# Altium footprint library TerminalBlock_Altech.PcbLib: 46 footprints (part 1 of 4)
Each footprint in its own frame and in the unit in brackets; x right, y up, seen from the top. Pads: shape width x height; smd on the part's side, far side on the other; paste and mask are expansions set on the pad; w line width, h text height; cw(c..) or ccw(c..) is an arc to the next point about the centre after c.
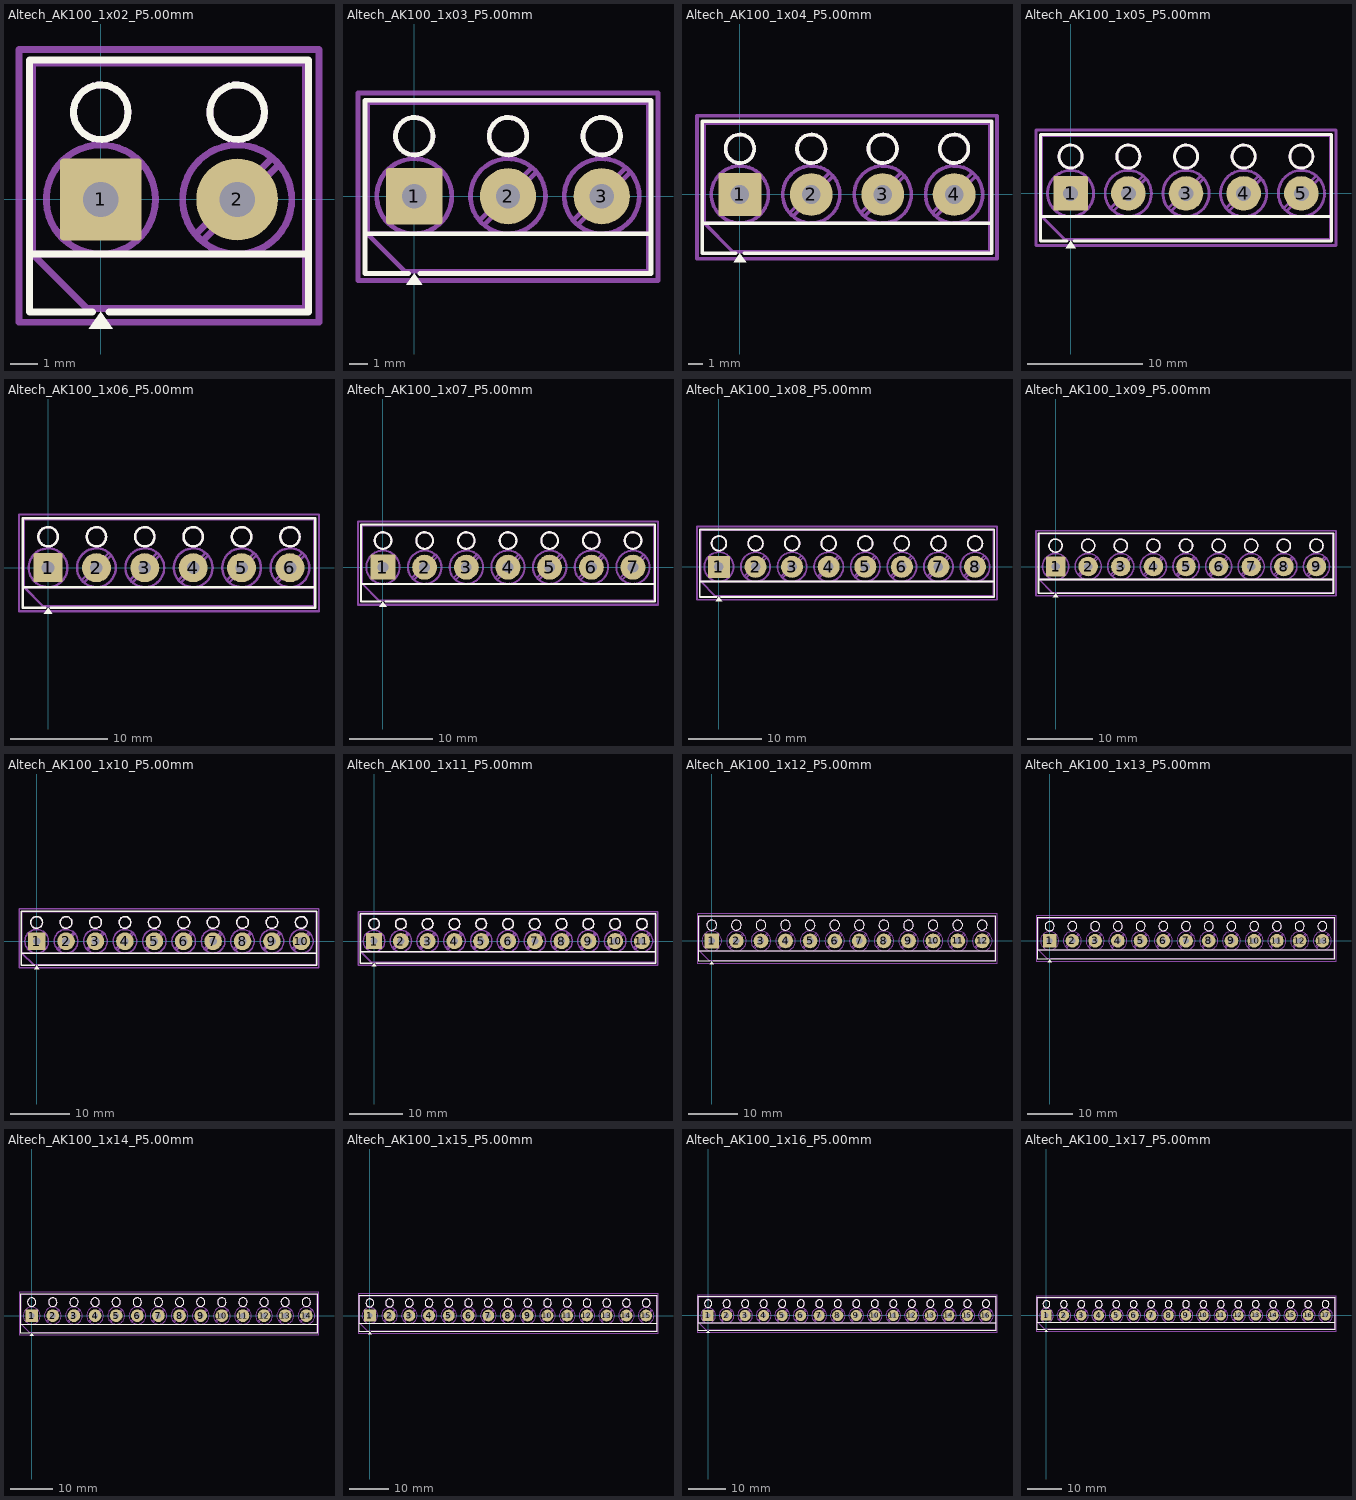
[diagram p0: the footprints below, top view; thin cyan lines are the x and y axes]

## Altech_AK100_1x02_P5.00mm [mm]
pads (2):
  rrect8% 3x3 hole 1.3: 1(0,0)
  round 3 hole 1.3: 2(5,0)
F.SilkS:
  circle w0.254: c5,3.2 r1
  circle w0.254: c0,3.2 r1
  region: 0.44,-4.73 -0.44,-4.73 0,-4.12
  lines w0.254: -2.62,-2 7.62,-2 ; -0.3,-4.12 -2.62,-4.12 -2.62,5.12 7.62,5.12 7.62,-4.12 0.3,-4.12
F.Fab:
  circle w0.254: c5,0 r2
  circle w0.254: c5,3.2 r1
  circle w0.254: c0,0 r2
  circle w0.254: c0,3.2 r1
  lines w0.254: -1.517,-1.273 1.273,1.517 ; -1.273,-1.517 1.517,1.273 ; 3.483,-1.273 6.273,1.517 ; 3.727,-1.517 6.517,1.273 ; 7.5,-2 -2.5,-2 ; -2.5,-2 -0.5,-4 7.5,-4 7.5,5 -2.5,5 -2.5,-2
  text "'.Designator'" at -1.547,-3.94 h1
F.CrtYd:
  lines w0.254: -3,-4.5 8,-4.5 8,5.5 -3,5.5 -3,-4.5

## Altech_AK100_1x03_P5.00mm [mm]
pads (3):
  rrect8% 3x3 hole 1.3: 1(0,0)
  round 3 hole 1.3: 2(5,0) 3(10,0)
F.SilkS:
  circle w0.254: c0,3.2 r1
  circle w0.254: c5,3.2 r1
  circle w0.254: c10,3.2 r1
  region: 0.44,-4.73 -0.44,-4.73 0,-4.12
  lines w0.254: -2.62,-2 12.62,-2 ; -0.3,-4.12 -2.62,-4.12 -2.62,5.12 12.62,5.12 12.62,-4.12 0.3,-4.12
F.Fab:
  circle w0.254: c0,3.2 r1
  circle w0.254: c0,0 r2
  circle w0.254: c5,3.2 r1
  circle w0.254: c5,0 r2
  circle w0.254: c10,3.2 r1
  circle w0.254: c10,0 r2
  lines w0.254: -1.517,-1.273 1.273,1.517 ; -1.273,-1.517 1.517,1.273 ; 3.483,-1.273 6.273,1.517 ; 3.727,-1.517 6.517,1.273 ; 8.483,-1.273 11.273,1.517 ; 8.727,-1.517 11.517,1.273 ; 12.5,-2 -2.5,-2 ; -2.5,-2 -2.5,5 12.5,5 12.5,-4 -0.5,-4 -2.5,-2
  text "'.Designator'" at 0.953,-3.94 h1
F.CrtYd:
  lines w0.254: -3,-4.5 -3,5.5 13,5.5 13,-4.5 -3,-4.5

## Altech_AK100_1x04_P5.00mm [mm]
pads (4):
  rrect8% 3x3 hole 1.3: 1(0,0)
  round 3 hole 1.3: 2(5,0) 3(10,0) 4(15,0)
F.SilkS:
  circle w0.254: c0,3.2 r1
  circle w0.254: c5,3.2 r1
  circle w0.254: c10,3.2 r1
  circle w0.254: c15,3.2 r1
  region: 0.44,-4.73 -0.44,-4.73 0,-4.12
  lines w0.254: -2.62,-2 17.62,-2 ; -0.3,-4.12 -2.62,-4.12 -2.62,5.12 17.62,5.12 17.62,-4.12 0.3,-4.12
F.Fab:
  circle w0.254: c0,3.2 r1
  circle w0.254: c0,0 r2
  circle w0.254: c5,3.2 r1
  circle w0.254: c5,0 r2
  circle w0.254: c10,3.2 r1
  circle w0.254: c10,0 r2
  circle w0.254: c15,3.2 r1
  circle w0.254: c15,0 r2
  lines w0.254: -1.517,-1.273 1.273,1.517 ; -1.273,-1.517 1.517,1.273 ; 3.483,-1.273 6.273,1.517 ; 3.727,-1.517 6.517,1.273 ; 8.483,-1.273 11.273,1.517 ; 8.727,-1.517 11.517,1.273 ; 13.483,-1.273 16.273,1.517 ; 13.727,-1.517 16.517,1.273 ; 17.5,-2 -2.5,-2 ; -2.5,-2 -2.5,5 17.5,5 17.5,-4 -0.5,-4 -2.5,-2
  text "'.Designator'" at 3.453,-3.94 h1
F.CrtYd:
  lines w0.254: -3,-4.5 -3,5.5 18,5.5 18,-4.5 -3,-4.5

## Altech_AK100_1x05_P5.00mm [mm]
pads (5):
  rrect8% 3x3 hole 1.3: 1(0,0)
  round 3 hole 1.3: 2(5,0) 3(10,0) 4(15,0) 5(20,0)
F.SilkS:
  circle w0.254: c0,3.2 r1
  circle w0.254: c5,3.2 r1
  circle w0.254: c10,3.2 r1
  circle w0.254: c15,3.2 r1
  circle w0.254: c20,3.2 r1
  region: 0.44,-4.73 -0.44,-4.73 0,-4.12
  lines w0.254: -2.62,-2 22.62,-2 ; -0.3,-4.12 -2.62,-4.12 -2.62,5.12 22.62,5.12 22.62,-4.12 0.3,-4.12
F.Fab:
  circle w0.254: c0,3.2 r1
  circle w0.254: c0,0 r2
  circle w0.254: c5,3.2 r1
  circle w0.254: c5,0 r2
  circle w0.254: c10,3.2 r1
  circle w0.254: c10,0 r2
  circle w0.254: c15,3.2 r1
  circle w0.254: c15,0 r2
  circle w0.254: c20,3.2 r1
  circle w0.254: c20,0 r2
  lines w0.254: -1.517,-1.273 1.273,1.517 ; -1.273,-1.517 1.517,1.273 ; 3.483,-1.273 6.273,1.517 ; 3.727,-1.517 6.517,1.273 ; 8.483,-1.273 11.273,1.517 ; 8.727,-1.517 11.517,1.273 ; 13.483,-1.273 16.273,1.517 ; 13.727,-1.517 16.517,1.273 ; 18.483,-1.273 21.273,1.517 ; 18.727,-1.517 21.517,1.273 ; 22.5,-2 -2.5,-2 ; -2.5,-2 -2.5,5 22.5,5 22.5,-4 -0.5,-4 -2.5,-2
  text "'.Designator'" at 5.953,-3.94 h1
F.CrtYd:
  lines w0.254: -3,-4.5 -3,5.5 23,5.5 23,-4.5 -3,-4.5

## Altech_AK100_1x06_P5.00mm [mm]
pads (6):
  rrect8% 3x3 hole 1.3: 1(0,0)
  round 3 hole 1.3: 2(5,0) 3(10,0) 4(15,0) 5(20,0) 6(25,0)
F.SilkS:
  circle w0.254: c0,3.2 r1
  circle w0.254: c5,3.2 r1
  circle w0.254: c10,3.2 r1
  circle w0.254: c15,3.2 r1
  circle w0.254: c20,3.2 r1
  circle w0.254: c25,3.2 r1
  region: 0.44,-4.73 -0.44,-4.73 0,-4.12
  lines w0.254: -2.62,-2 27.62,-2 ; -0.3,-4.12 -2.62,-4.12 -2.62,5.12 27.62,5.12 27.62,-4.12 0.3,-4.12
F.Fab:
  circle w0.254: c0,3.2 r1
  circle w0.254: c0,0 r2
  circle w0.254: c5,3.2 r1
  circle w0.254: c5,0 r2
  circle w0.254: c10,3.2 r1
  circle w0.254: c10,0 r2
  circle w0.254: c15,3.2 r1
  circle w0.254: c15,0 r2
  circle w0.254: c20,3.2 r1
  circle w0.254: c20,0 r2
  circle w0.254: c25,3.2 r1
  circle w0.254: c25,0 r2
  lines w0.254: -1.517,-1.273 1.273,1.517 ; -1.273,-1.517 1.517,1.273 ; 3.483,-1.273 6.273,1.517 ; 3.727,-1.517 6.517,1.273 ; 8.483,-1.273 11.273,1.517 ; 8.727,-1.517 11.517,1.273 ; 13.483,-1.273 16.273,1.517 ; 13.727,-1.517 16.517,1.273 ; 18.483,-1.273 21.273,1.517 ; 18.727,-1.517 21.517,1.273 ; 23.483,-1.273 26.273,1.517 ; 23.727,-1.517 26.517,1.273 ; 27.5,-2 -2.5,-2 ; -2.5,-2 -2.5,5 27.5,5 27.5,-4 -0.5,-4 -2.5,-2
  text "'.Designator'" at 8.453,-3.94 h1
F.CrtYd:
  lines w0.254: -3,-4.5 -3,5.5 28,5.5 28,-4.5 -3,-4.5

## Altech_AK100_1x07_P5.00mm [mm]
pads (7):
  rrect8% 3x3 hole 1.3: 1(0,0)
  round 3 hole 1.3: 2(5,0) 3(10,0) 4(15,0) 5(20,0) 6(25,0) 7(30,0)
F.SilkS:
  circle w0.254: c0,3.2 r1
  circle w0.254: c5,3.2 r1
  circle w0.254: c10,3.2 r1
  circle w0.254: c15,3.2 r1
  circle w0.254: c20,3.2 r1
  circle w0.254: c25,3.2 r1
  circle w0.254: c30,3.2 r1
  region: 0.44,-4.73 -0.44,-4.73 0,-4.12
  lines w0.254: -2.62,-2 32.62,-2 ; -0.3,-4.12 -2.62,-4.12 -2.62,5.12 32.62,5.12 32.62,-4.12 0.3,-4.12
F.Fab:
  circle w0.254: c0,3.2 r1
  circle w0.254: c0,0 r2
  circle w0.254: c5,3.2 r1
  circle w0.254: c5,0 r2
  circle w0.254: c10,3.2 r1
  circle w0.254: c10,0 r2
  circle w0.254: c15,3.2 r1
  circle w0.254: c15,0 r2
  circle w0.254: c20,3.2 r1
  circle w0.254: c20,0 r2
  circle w0.254: c25,3.2 r1
  circle w0.254: c25,0 r2
  circle w0.254: c30,3.2 r1
  circle w0.254: c30,0 r2
  lines w0.254: -1.517,-1.273 1.273,1.517 ; -1.273,-1.517 1.517,1.273 ; 3.483,-1.273 6.273,1.517 ; 3.727,-1.517 6.517,1.273 ; 8.483,-1.273 11.273,1.517 ; 8.727,-1.517 11.517,1.273 ; 13.483,-1.273 16.273,1.517 ; 13.727,-1.517 16.517,1.273 ; 18.483,-1.273 21.273,1.517 ; 18.727,-1.517 21.517,1.273 ; 23.483,-1.273 26.273,1.517 ; 23.727,-1.517 26.517,1.273 ; 28.483,-1.273 31.273,1.517 ; 28.727,-1.517 31.517,1.273 ; 32.5,-2 -2.5,-2 ; -2.5,-2 -2.5,5 32.5,5 32.5,-4 -0.5,-4 -2.5,-2
  text "'.Designator'" at 10.953,-3.94 h1
F.CrtYd:
  lines w0.254: -3,-4.5 -3,5.5 33,5.5 33,-4.5 -3,-4.5

## Altech_AK100_1x08_P5.00mm [mm]
pads (8):
  rrect8% 3x3 hole 1.3: 1(0,0)
  round 3 hole 1.3: 2(5,0) 3(10,0) 4(15,0) 5(20,0) 6(25,0) 7(30,0) 8(35,0)
F.SilkS:
  circle w0.254: c0,3.2 r1
  circle w0.254: c5,3.2 r1
  circle w0.254: c10,3.2 r1
  circle w0.254: c15,3.2 r1
  circle w0.254: c20,3.2 r1
  circle w0.254: c25,3.2 r1
  circle w0.254: c30,3.2 r1
  circle w0.254: c35,3.2 r1
  region: 0.44,-4.73 -0.44,-4.73 0,-4.12
  lines w0.254: -2.62,-2 37.62,-2 ; -0.3,-4.12 -2.62,-4.12 -2.62,5.12 37.62,5.12 37.62,-4.12 0.3,-4.12
F.Fab:
  circle w0.254: c0,3.2 r1
  circle w0.254: c0,0 r2
  circle w0.254: c5,3.2 r1
  circle w0.254: c5,0 r2
  circle w0.254: c10,3.2 r1
  circle w0.254: c10,0 r2
  circle w0.254: c15,3.2 r1
  circle w0.254: c15,0 r2
  circle w0.254: c20,3.2 r1
  circle w0.254: c20,0 r2
  circle w0.254: c25,3.2 r1
  circle w0.254: c25,0 r2
  circle w0.254: c30,3.2 r1
  circle w0.254: c30,0 r2
  circle w0.254: c35,3.2 r1
  circle w0.254: c35,0 r2
  lines w0.254: -1.517,-1.273 1.273,1.517 ; -1.273,-1.517 1.517,1.273 ; 3.483,-1.273 6.273,1.517 ; 3.727,-1.517 6.517,1.273 ; 8.483,-1.273 11.273,1.517 ; 8.727,-1.517 11.517,1.273 ; 13.483,-1.273 16.273,1.517 ; 13.727,-1.517 16.517,1.273 ; 18.483,-1.273 21.273,1.517 ; 18.727,-1.517 21.517,1.273 ; 23.483,-1.273 26.273,1.517 ; 23.727,-1.517 26.517,1.273 ; 28.483,-1.273 31.273,1.517 ; 28.727,-1.517 31.517,1.273 ; 33.483,-1.273 36.273,1.517 ; 33.727,-1.517 36.517,1.273 ; 37.5,-2 -2.5,-2 ; -2.5,-2 -2.5,5 37.5,5 37.5,-4 -0.5,-4 -2.5,-2
  text "'.Designator'" at 13.453,-3.94 h1
F.CrtYd:
  lines w0.254: -3,-4.5 -3,5.5 38,5.5 38,-4.5 -3,-4.5

## Altech_AK100_1x09_P5.00mm [mm]
pads (9):
  rrect8% 3x3 hole 1.3: 1(0,0)
  round 3 hole 1.3: 2(5,0) 3(10,0) 4(15,0) 5(20,0) 6(25,0) 7(30,0) 8(35,0) 9(40,0)
F.SilkS:
  circle w0.254: c0,3.2 r1
  circle w0.254: c5,3.2 r1
  circle w0.254: c10,3.2 r1
  circle w0.254: c15,3.2 r1
  circle w0.254: c20,3.2 r1
  circle w0.254: c25,3.2 r1
  circle w0.254: c30,3.2 r1
  circle w0.254: c35,3.2 r1
  circle w0.254: c40,3.2 r1
  region: 0.44,-4.73 -0.44,-4.73 0,-4.12
  lines w0.254: -2.62,-2 42.62,-2 ; -0.3,-4.12 -2.62,-4.12 -2.62,5.12 42.62,5.12 42.62,-4.12 0.3,-4.12
F.Fab:
  circle w0.254: c0,3.2 r1
  circle w0.254: c0,0 r2
  circle w0.254: c5,3.2 r1
  circle w0.254: c5,0 r2
  circle w0.254: c10,3.2 r1
  circle w0.254: c10,0 r2
  circle w0.254: c15,3.2 r1
  circle w0.254: c15,0 r2
  circle w0.254: c20,3.2 r1
  circle w0.254: c20,0 r2
  circle w0.254: c25,3.2 r1
  circle w0.254: c25,0 r2
  circle w0.254: c30,3.2 r1
  circle w0.254: c30,0 r2
  circle w0.254: c35,3.2 r1
  circle w0.254: c35,0 r2
  circle w0.254: c40,3.2 r1
  circle w0.254: c40,0 r2
  lines w0.254: -1.517,-1.273 1.273,1.517 ; -1.273,-1.517 1.517,1.273 ; 3.483,-1.273 6.273,1.517 ; 3.727,-1.517 6.517,1.273 ; 8.483,-1.273 11.273,1.517 ; 8.727,-1.517 11.517,1.273 ; 13.483,-1.273 16.273,1.517 ; 13.727,-1.517 16.517,1.273 ; 18.483,-1.273 21.273,1.517 ; 18.727,-1.517 21.517,1.273 ; 23.483,-1.273 26.273,1.517 ; 23.727,-1.517 26.517,1.273 ; 28.483,-1.273 31.273,1.517 ; 28.727,-1.517 31.517,1.273 ; 33.483,-1.273 36.273,1.517 ; 33.727,-1.517 36.517,1.273 ; 38.483,-1.273 41.273,1.517 ; 38.727,-1.517 41.517,1.273 ; 42.5,-2 -2.5,-2 ; -2.5,-2 -2.5,5 42.5,5 42.5,-4 -0.5,-4 -2.5,-2
  text "'.Designator'" at 15.953,-3.94 h1
F.CrtYd:
  lines w0.254: -3,-4.5 -3,5.5 43,5.5 43,-4.5 -3,-4.5

## Altech_AK100_1x10_P5.00mm [mm]
pads (10):
  rrect8% 3x3 hole 1.3: 1(0,0)
  round 3 hole 1.3: 2(5,0) 3(10,0) 4(15,0) 5(20,0) 6(25,0) 7(30,0) 8(35,0) 9(40,0) 10(45,0)
F.SilkS:
  circle w0.254: c0,3.2 r1
  circle w0.254: c5,3.2 r1
  circle w0.254: c10,3.2 r1
  circle w0.254: c15,3.2 r1
  circle w0.254: c20,3.2 r1
  circle w0.254: c25,3.2 r1
  circle w0.254: c30,3.2 r1
  circle w0.254: c35,3.2 r1
  circle w0.254: c40,3.2 r1
  circle w0.254: c45,3.2 r1
  region: 0.44,-4.73 -0.44,-4.73 0,-4.12
  lines w0.254: -2.62,-2 47.62,-2 ; -0.3,-4.12 -2.62,-4.12 -2.62,5.12 47.62,5.12 47.62,-4.12 0.3,-4.12
F.Fab:
  circle w0.254: c0,3.2 r1
  circle w0.254: c0,0 r2
  circle w0.254: c5,3.2 r1
  circle w0.254: c5,0 r2
  circle w0.254: c10,3.2 r1
  circle w0.254: c10,0 r2
  circle w0.254: c15,3.2 r1
  circle w0.254: c15,0 r2
  circle w0.254: c20,3.2 r1
  circle w0.254: c20,0 r2
  circle w0.254: c25,3.2 r1
  circle w0.254: c25,0 r2
  circle w0.254: c30,3.2 r1
  circle w0.254: c30,0 r2
  circle w0.254: c35,3.2 r1
  circle w0.254: c35,0 r2
  circle w0.254: c40,3.2 r1
  circle w0.254: c40,0 r2
  circle w0.254: c45,3.2 r1
  circle w0.254: c45,0 r2
  lines w0.254: -1.517,-1.273 1.273,1.517 ; -1.273,-1.517 1.517,1.273 ; 3.483,-1.273 6.273,1.517 ; 3.727,-1.517 6.517,1.273 ; 8.483,-1.273 11.273,1.517 ; 8.727,-1.517 11.517,1.273 ; 13.483,-1.273 16.273,1.517 ; 13.727,-1.517 16.517,1.273 ; 18.483,-1.273 21.273,1.517 ; 18.727,-1.517 21.517,1.273 ; 23.483,-1.273 26.273,1.517 ; 23.727,-1.517 26.517,1.273 ; 28.483,-1.273 31.273,1.517 ; 28.727,-1.517 31.517,1.273 ; 33.483,-1.273 36.273,1.517 ; 33.727,-1.517 36.517,1.273 ; 38.483,-1.273 41.273,1.517 ; 38.727,-1.517 41.517,1.273 ; 43.483,-1.273 46.273,1.517 ; 43.727,-1.517 46.517,1.273 ; 47.5,-2 -2.5,-2 ; -2.5,-2 -2.5,5 47.5,5 47.5,-4 -0.5,-4 -2.5,-2
  text "'.Designator'" at 18.453,-3.94 h1
F.CrtYd:
  lines w0.254: -3,-4.5 -3,5.5 48,5.5 48,-4.5 -3,-4.5

## Altech_AK100_1x11_P5.00mm [mm]
pads (11):
  rrect8% 3x3 hole 1.3: 1(0,0)
  round 3 hole 1.3: 2(5,0) 3(10,0) 4(15,0) 5(20,0) 6(25,0) 7(30,0) 8(35,0) 9(40,0) 10(45,0) 11(50,0)
F.SilkS:
  circle w0.254: c0,3.2 r1
  circle w0.254: c5,3.2 r1
  circle w0.254: c10,3.2 r1
  circle w0.254: c15,3.2 r1
  circle w0.254: c20,3.2 r1
  circle w0.254: c25,3.2 r1
  circle w0.254: c30,3.2 r1
  circle w0.254: c35,3.2 r1
  circle w0.254: c40,3.2 r1
  circle w0.254: c45,3.2 r1
  circle w0.254: c50,3.2 r1
  region: 0.44,-4.73 -0.44,-4.73 0,-4.12
  lines w0.254: -2.62,-2 52.62,-2 ; -0.3,-4.12 -2.62,-4.12 -2.62,5.12 52.62,5.12 52.62,-4.12 0.3,-4.12
F.Fab:
  circle w0.254: c0,3.2 r1
  circle w0.254: c0,0 r2
  circle w0.254: c5,3.2 r1
  circle w0.254: c5,0 r2
  circle w0.254: c10,3.2 r1
  circle w0.254: c10,0 r2
  circle w0.254: c15,3.2 r1
  circle w0.254: c15,0 r2
  circle w0.254: c20,3.2 r1
  circle w0.254: c20,0 r2
  circle w0.254: c25,3.2 r1
  circle w0.254: c25,0 r2
  circle w0.254: c30,3.2 r1
  circle w0.254: c30,0 r2
  circle w0.254: c35,3.2 r1
  circle w0.254: c35,0 r2
  circle w0.254: c40,3.2 r1
  circle w0.254: c40,0 r2
  circle w0.254: c45,3.2 r1
  circle w0.254: c45,0 r2
  circle w0.254: c50,3.2 r1
  circle w0.254: c50,0 r2
  lines w0.254: -1.517,-1.273 1.273,1.517 ; -1.273,-1.517 1.517,1.273 ; 3.483,-1.273 6.273,1.517 ; 3.727,-1.517 6.517,1.273 ; 8.483,-1.273 11.273,1.517 ; 8.727,-1.517 11.517,1.273 ; 13.483,-1.273 16.273,1.517 ; 13.727,-1.517 16.517,1.273 ; 18.483,-1.273 21.273,1.517 ; 18.727,-1.517 21.517,1.273 ; 23.483,-1.273 26.273,1.517 ; 23.727,-1.517 26.517,1.273 ; 28.483,-1.273 31.273,1.517 ; 28.727,-1.517 31.517,1.273 ; 33.483,-1.273 36.273,1.517 ; 33.727,-1.517 36.517,1.273 ; 38.483,-1.273 41.273,1.517 ; 38.727,-1.517 41.517,1.273 ; 43.483,-1.273 46.273,1.517 ; 43.727,-1.517 46.517,1.273 ; 48.483,-1.273 51.273,1.517 ; 48.727,-1.517 51.517,1.273 ; 52.5,-2 -2.5,-2 ; -2.5,-2 -2.5,5 52.5,5 52.5,-4 -0.5,-4 -2.5,-2
  text "'.Designator'" at 20.953,-3.94 h1
F.CrtYd:
  lines w0.254: -3,-4.5 -3,5.5 53,5.5 53,-4.5 -3,-4.5

## Altech_AK100_1x12_P5.00mm [mm]
pads (12):
  rrect8% 3x3 hole 1.3: 1(0,0)
  round 3 hole 1.3: 2(5,0) 3(10,0) 4(15,0) 5(20,0) 6(25,0) 7(30,0) 8(35,0) 9(40,0) 10(45,0) 11(50,0) 12(55,0)
F.SilkS:
  circle w0.254: c0,3.2 r1
  circle w0.254: c5,3.2 r1
  circle w0.254: c10,3.2 r1
  circle w0.254: c15,3.2 r1
  circle w0.254: c20,3.2 r1
  circle w0.254: c25,3.2 r1
  circle w0.254: c30,3.2 r1
  circle w0.254: c35,3.2 r1
  circle w0.254: c40,3.2 r1
  circle w0.254: c45,3.2 r1
  circle w0.254: c50,3.2 r1
  circle w0.254: c55,3.2 r1
  region: 0.44,-4.73 -0.44,-4.73 0,-4.12
  lines w0.254: -2.62,-2 57.62,-2 ; -0.3,-4.12 -2.62,-4.12 -2.62,5.12 57.62,5.12 57.62,-4.12 0.3,-4.12
F.Fab:
  circle w0.254: c0,3.2 r1
  circle w0.254: c0,0 r2
  circle w0.254: c5,3.2 r1
  circle w0.254: c5,0 r2
  circle w0.254: c10,3.2 r1
  circle w0.254: c10,0 r2
  circle w0.254: c15,3.2 r1
  circle w0.254: c15,0 r2
  circle w0.254: c20,3.2 r1
  circle w0.254: c20,0 r2
  circle w0.254: c25,3.2 r1
  circle w0.254: c25,0 r2
  circle w0.254: c30,3.2 r1
  circle w0.254: c30,0 r2
  circle w0.254: c35,3.2 r1
  circle w0.254: c35,0 r2
  circle w0.254: c40,3.2 r1
  circle w0.254: c40,0 r2
  circle w0.254: c45,3.2 r1
  circle w0.254: c45,0 r2
  circle w0.254: c50,3.2 r1
  circle w0.254: c50,0 r2
  circle w0.254: c55,3.2 r1
  circle w0.254: c55,0 r2
  lines w0.254: -1.517,-1.273 1.273,1.517 ; -1.273,-1.517 1.517,1.273 ; 3.483,-1.273 6.273,1.517 ; 3.727,-1.517 6.517,1.273 ; 8.483,-1.273 11.273,1.517 ; 8.727,-1.517 11.517,1.273 ; 13.483,-1.273 16.273,1.517 ; 13.727,-1.517 16.517,1.273 ; 18.483,-1.273 21.273,1.517 ; 18.727,-1.517 21.517,1.273 ; 23.483,-1.273 26.273,1.517 ; 23.727,-1.517 26.517,1.273 ; 28.483,-1.273 31.273,1.517 ; 28.727,-1.517 31.517,1.273 ; 33.483,-1.273 36.273,1.517 ; 33.727,-1.517 36.517,1.273 ; 38.483,-1.273 41.273,1.517 ; 38.727,-1.517 41.517,1.273 ; 43.483,-1.273 46.273,1.517 ; 43.727,-1.517 46.517,1.273 ; 48.483,-1.273 51.273,1.517 ; 48.727,-1.517 51.517,1.273 ; 53.483,-1.273 56.273,1.517 ; 53.727,-1.517 56.517,1.273 ; 57.5,-2 -2.5,-2 ; -2.5,-2 -2.5,5 57.5,5 57.5,-4 -0.5,-4 -2.5,-2
  text "'.Designator'" at 23.453,-3.94 h1
F.CrtYd:
  lines w0.254: -3,-4.5 -3,5.5 58,5.5 58,-4.5 -3,-4.5

## Altech_AK100_1x13_P5.00mm [mm]
pads (13):
  rrect8% 3x3 hole 1.3: 1(0,0)
  round 3 hole 1.3: 2(5,0) 3(10,0) 4(15,0) 5(20,0) 6(25,0) 7(30,0) 8(35,0) 9(40,0) 10(45,0) 11(50,0) 12(55,0) 13(60,0)
F.SilkS:
  circle w0.254: c0,3.2 r1
  circle w0.254: c5,3.2 r1
  circle w0.254: c10,3.2 r1
  circle w0.254: c15,3.2 r1
  circle w0.254: c20,3.2 r1
  circle w0.254: c25,3.2 r1
  circle w0.254: c30,3.2 r1
  circle w0.254: c35,3.2 r1
  circle w0.254: c40,3.2 r1
  circle w0.254: c45,3.2 r1
  circle w0.254: c50,3.2 r1
  circle w0.254: c55,3.2 r1
  circle w0.254: c60,3.2 r1
  region: 0.44,-4.73 -0.44,-4.73 0,-4.12
  lines w0.254: -2.62,-2 62.62,-2 ; -0.3,-4.12 -2.62,-4.12 -2.62,5.12 62.62,5.12 62.62,-4.12 0.3,-4.12
F.Fab:
  circle w0.254: c0,3.2 r1
  circle w0.254: c0,0 r2
  circle w0.254: c5,3.2 r1
  circle w0.254: c5,0 r2
  circle w0.254: c10,3.2 r1
  circle w0.254: c10,0 r2
  circle w0.254: c15,3.2 r1
  circle w0.254: c15,0 r2
  circle w0.254: c20,3.2 r1
  circle w0.254: c20,0 r2
  circle w0.254: c25,3.2 r1
  circle w0.254: c25,0 r2
  circle w0.254: c30,3.2 r1
  circle w0.254: c30,0 r2
  circle w0.254: c35,3.2 r1
  circle w0.254: c35,0 r2
  circle w0.254: c40,3.2 r1
  circle w0.254: c40,0 r2
  circle w0.254: c45,3.2 r1
  circle w0.254: c45,0 r2
  circle w0.254: c50,3.2 r1
  circle w0.254: c50,0 r2
  circle w0.254: c55,3.2 r1
  circle w0.254: c55,0 r2
  circle w0.254: c60,3.2 r1
  circle w0.254: c60,0 r2
  lines w0.254: -1.517,-1.273 1.273,1.517 ; -1.273,-1.517 1.517,1.273 ; 3.483,-1.273 6.273,1.517 ; 3.727,-1.517 6.517,1.273 ; 8.483,-1.273 11.273,1.517 ; 8.727,-1.517 11.517,1.273 ; 13.483,-1.273 16.273,1.517 ; 13.727,-1.517 16.517,1.273 ; 18.483,-1.273 21.273,1.517 ; 18.727,-1.517 21.517,1.273 ; 23.483,-1.273 26.273,1.517 ; 23.727,-1.517 26.517,1.273 ; 28.483,-1.273 31.273,1.517 ; 28.727,-1.517 31.517,1.273 ; 33.483,-1.273 36.273,1.517 ; 33.727,-1.517 36.517,1.273 ; 38.483,-1.273 41.273,1.517 ; 38.727,-1.517 41.517,1.273 ; 43.483,-1.273 46.273,1.517 ; 43.727,-1.517 46.517,1.273 ; 48.483,-1.273 51.273,1.517 ; 48.727,-1.517 51.517,1.273 ; 53.483,-1.273 56.273,1.517 ; 53.727,-1.517 56.517,1.273 ; 58.483,-1.273 61.273,1.517 ; 58.727,-1.517 61.517,1.273 ; 62.5,-2 -2.5,-2 ; -2.5,-2 -2.5,5 62.5,5 62.5,-4 -0.5,-4 -2.5,-2
  text "'.Designator'" at 25.953,-3.94 h1
F.CrtYd:
  lines w0.254: -3,-4.5 -3,5.5 63,5.5 63,-4.5 -3,-4.5

## Altech_AK100_1x14_P5.00mm [mm]
pads (14):
  rrect8% 3x3 hole 1.3: 1(0,0)
  round 3 hole 1.3: 2(5,0) 3(10,0) 4(15,0) 5(20,0) 6(25,0) 7(30,0) 8(35,0) 9(40,0) 10(45,0) 11(50,0) 12(55,0) 13(60,0) 14(65,0)
F.SilkS:
  circle w0.254: c0,3.2 r1
  circle w0.254: c5,3.2 r1
  circle w0.254: c10,3.2 r1
  circle w0.254: c15,3.2 r1
  circle w0.254: c20,3.2 r1
  circle w0.254: c25,3.2 r1
  circle w0.254: c30,3.2 r1
  circle w0.254: c35,3.2 r1
  circle w0.254: c40,3.2 r1
  circle w0.254: c45,3.2 r1
  circle w0.254: c50,3.2 r1
  circle w0.254: c55,3.2 r1
  circle w0.254: c60,3.2 r1
  circle w0.254: c65,3.2 r1
  region: 0.44,-4.73 -0.44,-4.73 0,-4.12
  lines w0.254: -2.62,-2 67.62,-2 ; -0.3,-4.12 -2.62,-4.12 -2.62,5.12 67.62,5.12 67.62,-4.12 0.3,-4.12
F.Fab:
  circle w0.254: c0,3.2 r1
  circle w0.254: c0,0 r2
  circle w0.254: c5,3.2 r1
  circle w0.254: c5,0 r2
  circle w0.254: c10,3.2 r1
  circle w0.254: c10,0 r2
  circle w0.254: c15,3.2 r1
  circle w0.254: c15,0 r2
  circle w0.254: c20,3.2 r1
  circle w0.254: c20,0 r2
  circle w0.254: c25,3.2 r1
  circle w0.254: c25,0 r2
  circle w0.254: c30,3.2 r1
  circle w0.254: c30,0 r2
  circle w0.254: c35,3.2 r1
  circle w0.254: c35,0 r2
  circle w0.254: c40,3.2 r1
  circle w0.254: c40,0 r2
  circle w0.254: c45,3.2 r1
  circle w0.254: c45,0 r2
  circle w0.254: c50,3.2 r1
  circle w0.254: c50,0 r2
  circle w0.254: c55,3.2 r1
  circle w0.254: c55,0 r2
  circle w0.254: c60,3.2 r1
  circle w0.254: c60,0 r2
  circle w0.254: c65,3.2 r1
  circle w0.254: c65,0 r2
  lines w0.254: -1.517,-1.273 1.273,1.517 ; -1.273,-1.517 1.517,1.273 ; 3.483,-1.273 6.273,1.517 ; 3.727,-1.517 6.517,1.273 ; 8.483,-1.273 11.273,1.517 ; 8.727,-1.517 11.517,1.273 ; 13.483,-1.273 16.273,1.517 ; 13.727,-1.517 16.517,1.273 ; 18.483,-1.273 21.273,1.517 ; 18.727,-1.517 21.517,1.273 ; 23.483,-1.273 26.273,1.517 ; 23.727,-1.517 26.517,1.273 ; 28.483,-1.273 31.273,1.517 ; 28.727,-1.517 31.517,1.273 ; 33.483,-1.273 36.273,1.517 ; 33.727,-1.517 36.517,1.273 ; 38.483,-1.273 41.273,1.517 ; 38.727,-1.517 41.517,1.273 ; 43.483,-1.273 46.273,1.517 ; 43.727,-1.517 46.517,1.273 ; 48.483,-1.273 51.273,1.517 ; 48.727,-1.517 51.517,1.273 ; 53.483,-1.273 56.273,1.517 ; 53.727,-1.517 56.517,1.273 ; 58.483,-1.273 61.273,1.517 ; 58.727,-1.517 61.517,1.273 ; 63.483,-1.273 66.273,1.517 ; 63.727,-1.517 66.517,1.273 ; 67.5,-2 -2.5,-2 ; -2.5,-2 -2.5,5 67.5,5 67.5,-4 -0.5,-4 -2.5,-2
  text "'.Designator'" at 28.453,-3.94 h1
F.CrtYd:
  lines w0.254: -3,-4.5 -3,5.5 68,5.5 68,-4.5 -3,-4.5

## Altech_AK100_1x15_P5.00mm [mm]
pads (15):
  rrect8% 3x3 hole 1.3: 1(0,0)
  round 3 hole 1.3: 2(5,0) 3(10,0) 4(15,0) 5(20,0) 6(25,0) 7(30,0) 8(35,0) 9(40,0) 10(45,0) 11(50,0) 12(55,0) 13(60,0) 14(65,0) 15(70,0)
F.SilkS:
  circle w0.254: c0,3.2 r1
  circle w0.254: c5,3.2 r1
  circle w0.254: c10,3.2 r1
  circle w0.254: c15,3.2 r1
  circle w0.254: c20,3.2 r1
  circle w0.254: c25,3.2 r1
  circle w0.254: c30,3.2 r1
  circle w0.254: c35,3.2 r1
  circle w0.254: c40,3.2 r1
  circle w0.254: c45,3.2 r1
  circle w0.254: c50,3.2 r1
  circle w0.254: c55,3.2 r1
  circle w0.254: c60,3.2 r1
  circle w0.254: c65,3.2 r1
  circle w0.254: c70,3.2 r1
  region: 0.44,-4.73 -0.44,-4.73 0,-4.12
  lines w0.254: -2.62,-2 72.62,-2 ; -0.3,-4.12 -2.62,-4.12 -2.62,5.12 72.62,5.12 72.62,-4.12 0.3,-4.12
F.Fab:
  circle w0.254: c0,3.2 r1
  circle w0.254: c0,0 r2
  circle w0.254: c5,3.2 r1
  circle w0.254: c5,0 r2
  circle w0.254: c10,3.2 r1
  circle w0.254: c10,0 r2
  circle w0.254: c15,3.2 r1
  circle w0.254: c15,0 r2
  circle w0.254: c20,3.2 r1
  circle w0.254: c20,0 r2
  circle w0.254: c25,3.2 r1
  circle w0.254: c25,0 r2
  circle w0.254: c30,3.2 r1
  circle w0.254: c30,0 r2
  circle w0.254: c35,3.2 r1
  circle w0.254: c35,0 r2
  circle w0.254: c40,3.2 r1
  circle w0.254: c40,0 r2
  circle w0.254: c45,3.2 r1
  circle w0.254: c45,0 r2
  circle w0.254: c50,3.2 r1
  circle w0.254: c50,0 r2
  circle w0.254: c55,3.2 r1
  circle w0.254: c55,0 r2
  circle w0.254: c60,3.2 r1
  circle w0.254: c60,0 r2
  circle w0.254: c65,3.2 r1
  circle w0.254: c65,0 r2
  circle w0.254: c70,3.2 r1
  circle w0.254: c70,0 r2
  lines w0.254: -1.517,-1.273 1.273,1.517 ; -1.273,-1.517 1.517,1.273 ; 3.483,-1.273 6.273,1.517 ; 3.727,-1.517 6.517,1.273 ; 8.483,-1.273 11.273,1.517 ; 8.727,-1.517 11.517,1.273 ; 13.483,-1.273 16.273,1.517 ; 13.727,-1.517 16.517,1.273 ; 18.483,-1.273 21.273,1.517 ; 18.727,-1.517 21.517,1.273 ; 23.483,-1.273 26.273,1.517 ; 23.727,-1.517 26.517,1.273 ; 28.483,-1.273 31.273,1.517 ; 28.727,-1.517 31.517,1.273 ; 33.483,-1.273 36.273,1.517 ; 33.727,-1.517 36.517,1.273 ; 38.483,-1.273 41.273,1.517 ; 38.727,-1.517 41.517,1.273 ; 43.483,-1.273 46.273,1.517 ; 43.727,-1.517 46.517,1.273 ; 48.483,-1.273 51.273,1.517 ; 48.727,-1.517 51.517,1.273 ; 53.483,-1.273 56.273,1.517 ; 53.727,-1.517 56.517,1.273 ; 58.483,-1.273 61.273,1.517 ; 58.727,-1.517 61.517,1.273 ; 63.483,-1.273 66.273,1.517 ; 63.727,-1.517 66.517,1.273 ; 68.483,-1.273 71.273,1.517 ; 68.727,-1.517 71.517,1.273 ; 72.5,-2 -2.5,-2 ; -2.5,-2 -2.5,5 72.5,5 72.5,-4 -0.5,-4 -2.5,-2
  text "'.Designator'" at 30.953,-3.94 h1
F.CrtYd:
  lines w0.254: -3,-4.5 -3,5.5 73,5.5 73,-4.5 -3,-4.5

## Altech_AK100_1x16_P5.00mm [mm]
pads (16):
  rrect8% 3x3 hole 1.3: 1(0,0)
  round 3 hole 1.3: 2(5,0) 3(10,0) 4(15,0) 5(20,0) 6(25,0) 7(30,0) 8(35,0) 9(40,0) 10(45,0) 11(50,0) 12(55,0) 13(60,0) 14(65,0) 15(70,0) 16(75,0)
F.SilkS:
  circle w0.254: c0,3.2 r1
  circle w0.254: c5,3.2 r1
  circle w0.254: c10,3.2 r1
  circle w0.254: c15,3.2 r1
  circle w0.254: c20,3.2 r1
  circle w0.254: c25,3.2 r1
  circle w0.254: c30,3.2 r1
  circle w0.254: c35,3.2 r1
  circle w0.254: c40,3.2 r1
  circle w0.254: c45,3.2 r1
  circle w0.254: c50,3.2 r1
  circle w0.254: c55,3.2 r1
  circle w0.254: c60,3.2 r1
  circle w0.254: c65,3.2 r1
  circle w0.254: c70,3.2 r1
  circle w0.254: c75,3.2 r1
  region: 0.44,-4.73 -0.44,-4.73 0,-4.12
  lines w0.254: -2.62,-2 77.62,-2 ; -0.3,-4.12 -2.62,-4.12 -2.62,5.12 77.62,5.12 77.62,-4.12 0.3,-4.12
F.Fab:
  circle w0.254: c0,3.2 r1
  circle w0.254: c0,0 r2
  circle w0.254: c5,3.2 r1
  circle w0.254: c5,0 r2
  circle w0.254: c10,3.2 r1
  circle w0.254: c10,0 r2
  circle w0.254: c15,3.2 r1
  circle w0.254: c15,0 r2
  circle w0.254: c20,3.2 r1
  circle w0.254: c20,0 r2
  circle w0.254: c25,3.2 r1
  circle w0.254: c25,0 r2
  circle w0.254: c30,3.2 r1
  circle w0.254: c30,0 r2
  circle w0.254: c35,3.2 r1
  circle w0.254: c35,0 r2
  circle w0.254: c40,3.2 r1
  circle w0.254: c40,0 r2
  circle w0.254: c45,3.2 r1
  circle w0.254: c45,0 r2
  circle w0.254: c50,3.2 r1
  circle w0.254: c50,0 r2
  circle w0.254: c55,3.2 r1
  circle w0.254: c55,0 r2
  circle w0.254: c60,3.2 r1
  circle w0.254: c60,0 r2
  circle w0.254: c65,3.2 r1
  circle w0.254: c65,0 r2
  circle w0.254: c70,3.2 r1
  circle w0.254: c70,0 r2
  circle w0.254: c75,3.2 r1
  circle w0.254: c75,0 r2
  lines w0.254: -1.517,-1.273 1.273,1.517 ; -1.273,-1.517 1.517,1.273 ; 3.483,-1.273 6.273,1.517 ; 3.727,-1.517 6.517,1.273 ; 8.483,-1.273 11.273,1.517 ; 8.727,-1.517 11.517,1.273 ; 13.483,-1.273 16.273,1.517 ; 13.727,-1.517 16.517,1.273 ; 18.483,-1.273 21.273,1.517 ; 18.727,-1.517 21.517,1.273 ; 23.483,-1.273 26.273,1.517 ; 23.727,-1.517 26.517,1.273 ; 28.483,-1.273 31.273,1.517 ; 28.727,-1.517 31.517,1.273 ; 33.483,-1.273 36.273,1.517 ; 33.727,-1.517 36.517,1.273 ; 38.483,-1.273 41.273,1.517 ; 38.727,-1.517 41.517,1.273 ; 43.483,-1.273 46.273,1.517 ; 43.727,-1.517 46.517,1.273 ; 48.483,-1.273 51.273,1.517 ; 48.727,-1.517 51.517,1.273 ; 53.483,-1.273 56.273,1.517 ; 53.727,-1.517 56.517,1.273 ; 58.483,-1.273 61.273,1.517 ; 58.727,-1.517 61.517,1.273 ; 63.483,-1.273 66.273,1.517 ; 63.727,-1.517 66.517,1.273 ; 68.483,-1.273 71.273,1.517 ; 68.727,-1.517 71.517,1.273 ; 73.483,-1.273 76.273,1.517 ; 73.727,-1.517 76.517,1.273 ; 77.5,-2 -2.5,-2 ; -2.5,-2 -2.5,5 77.5,5 77.5,-4 -0.5,-4 -2.5,-2
  text "'.Designator'" at 33.453,-3.94 h1
F.CrtYd:
  lines w0.254: -3,-4.5 -3,5.5 78,5.5 78,-4.5 -3,-4.5

## Altech_AK100_1x17_P5.00mm [mm]
pads (17):
  rrect8% 3x3 hole 1.3: 1(0,0)
  round 3 hole 1.3: 2(5,0) 3(10,0) 4(15,0) 5(20,0) 6(25,0) 7(30,0) 8(35,0) 9(40,0) 10(45,0) 11(50,0) 12(55,0) 13(60,0) 14(65,0) 15(70,0) 16(75,0) 17(80,0)
F.SilkS:
  circle w0.254: c0,3.2 r1
  circle w0.254: c5,3.2 r1
  circle w0.254: c10,3.2 r1
  circle w0.254: c15,3.2 r1
  circle w0.254: c20,3.2 r1
  circle w0.254: c25,3.2 r1
  circle w0.254: c30,3.2 r1
  circle w0.254: c35,3.2 r1
  circle w0.254: c40,3.2 r1
  circle w0.254: c45,3.2 r1
  circle w0.254: c50,3.2 r1
  circle w0.254: c55,3.2 r1
  circle w0.254: c60,3.2 r1
  circle w0.254: c65,3.2 r1
  circle w0.254: c70,3.2 r1
  circle w0.254: c75,3.2 r1
  circle w0.254: c80,3.2 r1
  region: 0.44,-4.73 -0.44,-4.73 0,-4.12
  lines w0.254: -2.62,-2 82.62,-2 ; -0.3,-4.12 -2.62,-4.12 -2.62,5.12 82.62,5.12 82.62,-4.12 0.3,-4.12
F.Fab:
  circle w0.254: c0,3.2 r1
  circle w0.254: c0,0 r2
  circle w0.254: c5,3.2 r1
  circle w0.254: c5,0 r2
  circle w0.254: c10,3.2 r1
  circle w0.254: c10,0 r2
  circle w0.254: c15,3.2 r1
  circle w0.254: c15,0 r2
  circle w0.254: c20,3.2 r1
  circle w0.254: c20,0 r2
  circle w0.254: c25,3.2 r1
  circle w0.254: c25,0 r2
  circle w0.254: c30,3.2 r1
  circle w0.254: c30,0 r2
  circle w0.254: c35,3.2 r1
  circle w0.254: c35,0 r2
  circle w0.254: c40,3.2 r1
  circle w0.254: c40,0 r2
  circle w0.254: c45,3.2 r1
  circle w0.254: c45,0 r2
  circle w0.254: c50,3.2 r1
  circle w0.254: c50,0 r2
  circle w0.254: c55,3.2 r1
  circle w0.254: c55,0 r2
  circle w0.254: c60,3.2 r1
  circle w0.254: c60,0 r2
  circle w0.254: c65,3.2 r1
  circle w0.254: c65,0 r2
  circle w0.254: c70,3.2 r1
  circle w0.254: c70,0 r2
  circle w0.254: c75,3.2 r1
  circle w0.254: c75,0 r2
  circle w0.254: c80,3.2 r1
  circle w0.254: c80,0 r2
  lines w0.254: -1.517,-1.273 1.273,1.517 ; -1.273,-1.517 1.517,1.273 ; 3.483,-1.273 6.273,1.517 ; 3.727,-1.517 6.517,1.273 ; 8.483,-1.273 11.273,1.517 ; 8.727,-1.517 11.517,1.273 ; 13.483,-1.273 16.273,1.517 ; 13.727,-1.517 16.517,1.273 ; 18.483,-1.273 21.273,1.517 ; 18.727,-1.517 21.517,1.273 ; 23.483,-1.273 26.273,1.517 ; 23.727,-1.517 26.517,1.273 ; 28.483,-1.273 31.273,1.517 ; 28.727,-1.517 31.517,1.273 ; 33.483,-1.273 36.273,1.517 ; 33.727,-1.517 36.517,1.273 ; 38.483,-1.273 41.273,1.517 ; 38.727,-1.517 41.517,1.273 ; 43.483,-1.273 46.273,1.517 ; 43.727,-1.517 46.517,1.273 ; 48.483,-1.273 51.273,1.517 ; 48.727,-1.517 51.517,1.273 ; 53.483,-1.273 56.273,1.517 ; 53.727,-1.517 56.517,1.273 ; 58.483,-1.273 61.273,1.517 ; 58.727,-1.517 61.517,1.273 ; 63.483,-1.273 66.273,1.517 ; 63.727,-1.517 66.517,1.273 ; 68.483,-1.273 71.273,1.517 ; 68.727,-1.517 71.517,1.273 ; 73.483,-1.273 76.273,1.517 ; 73.727,-1.517 76.517,1.273 ; 78.483,-1.273 81.273,1.517 ; 78.727,-1.517 81.517,1.273 ; 82.5,-2 -2.5,-2 ; -2.5,-2 -2.5,5 82.5,5 82.5,-4 -0.5,-4 -2.5,-2
  text "'.Designator'" at 35.953,-3.94 h1
F.CrtYd:
  lines w0.254: -3,-4.5 -3,5.5 83,5.5 83,-4.5 -3,-4.5